# EAGLE library part IRF7403 (library 1_USER)
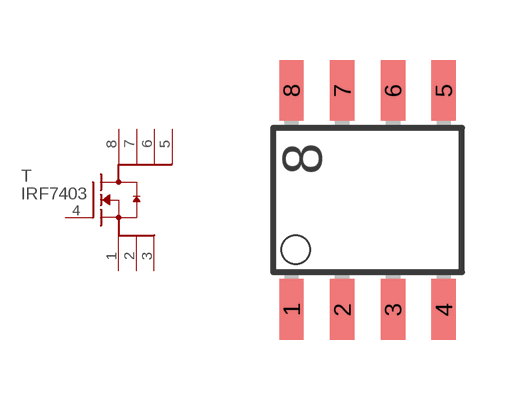
[diagram p13: symbol with the pads of SO8; footprint SO8]

Designator prefix T

## IRF7403  [SO8]
1  S  pas
2  S  pas
3  S  pas
4  G  pas
5  D  pas
6  D  pas
7  D  pas
8  D  pas

## Footprint SO8 (pad centres in mm)
smd 0.61 x 1.524: 1 -1.27,-2.743; 2 0,-2.743; 3 1.27,-2.743; 4 2.54,-2.743; 5 2.54,2.743; 6 1.27,2.743; 7 0,2.743; 8 -1.27,2.743